# EAGLE library part ARIETTA (library 000001)
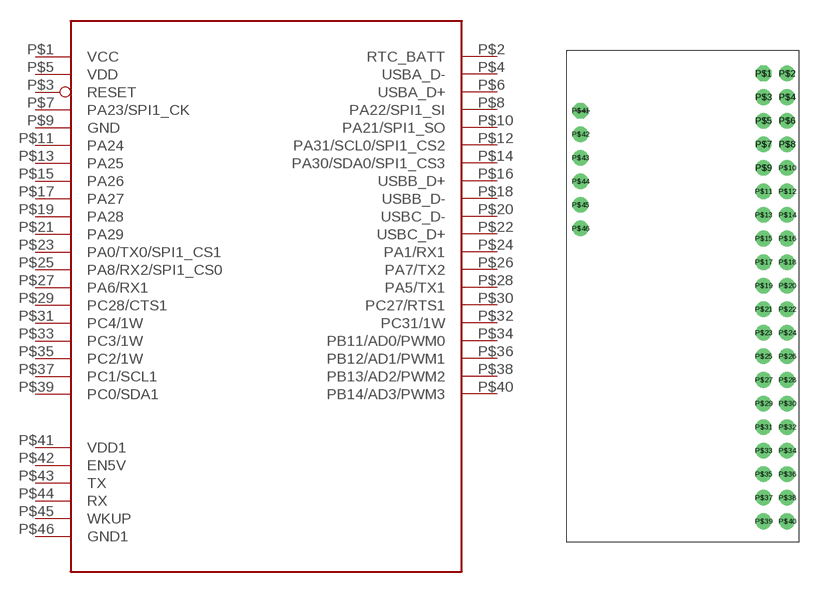
[diagram p132: symbol with the pads of ARIETTA; footprint ARIETTA]

Designator prefix -

## ARIETTA  [ARIETTA]
P$1  VCC  in
P$2  RTC_BATT
P$3  RESET
P$4  USBA_D-
P$5  VDD  pwr
P$6  USBA_D+
P$7  PA23/SPI1_CK
P$8  PA22/SPI1_SI
P$9  GND  pwr
P$10  PA21/SPI1_SO
P$11  PA24
P$12  PA31/SCL0/SPI1_CS2
P$13  PA25
P$14  PA30/SDA0/SPI1_CS3
P$15  PA26
P$16  USBB_D+
P$17  PA27
P$18  USBB_D-
P$19  PA28
P$20  USBC_D-
P$21  PA29
P$22  USBC_D+
P$23  PA0/TX0/SPI1_CS1
P$24  PA1/RX1
P$25  PA8/RX2/SPI1_CS0
P$26  PA7/TX2
P$27  PA6/RX1
P$28  PA5/TX1
P$29  PC28/CTS1
P$30  PC27/RTS1
P$31  PC4/1W
P$32  PC31/1W
P$33  PC3/1W
P$34  PB11/AD0/PWM0
P$35  PC2/1W
P$36  PB12/AD1/PWM1
P$37  PC1/SCL1
P$38  PB13/AD2/PWM2
P$39  PC0/SDA1
P$40  PB14/AD3/PWM3
P$41  VDD1  pwr
P$42  EN5V  in
P$43  TX
P$44  RX
P$45  WKUP
P$46  GND1  pwr

## Footprint ARIETTA (pad centres in mm)
drill 0.8 pad 1.676 octagon: P$1 0,0; P$41 -19.73,-4
drill 0.8 pad 1.676 round: P$2 2.54,0; P$3 0,-2.54; P$4 2.54,-2.54; P$5 0,-5.08; P$6 2.54,-5.08; P$7 0,-7.62; P$8 2.54,-7.62; P$9 0,-10.16; P$10 2.54,-10.16; P$11 0,-12.7; P$12 2.54,-12.7; P$13 0,-15.24; P$14 2.54,-15.24; P$15 0,-17.78; P$16 2.54,-17.78; P$17 0,-20.32; P$18 2.54,-20.32; P$19 0,-22.86; P$20 2.54,-22.86; P$21 0,-25.4; P$22 2.54,-25.4; P$23 0,-27.94; P$24 2.54,-27.94; P$25 0,-30.48; P$26 2.54,-30.48; P$27 0,-33.02; P$28 2.54,-33.02; P$29 0,-35.56; P$30 2.54,-35.56; P$31 0,-38.1; P$32 2.54,-38.1; P$33 0,-40.64; P$34 2.54,-40.64; P$35 0,-43.18; P$36 2.54,-43.18; P$37 0,-45.72; P$38 2.54,-45.72; P$39 0,-48.26; P$40 2.54,-48.26; P$42 -19.73,-6.54; P$43 -19.73,-9.08; P$44 -19.73,-11.62; P$45 -19.73,-14.16; P$46 -19.73,-16.7